# EAGLE library part MCP6L02 (library heph_custom_comp)
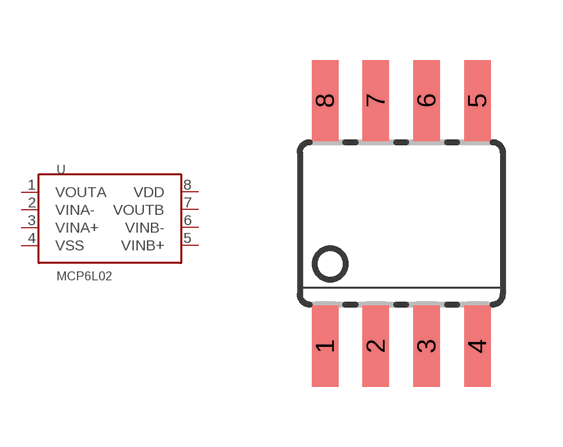
[diagram p3: symbol with the pads of SOIC-08; footprint SOIC-08]

Designator prefix -

## MCP6L02  [SOIC-08]
1  VOUTA
2  VINA-
3  VINA+
4  VSS
5  VINB+
6  VINB-
7  VOUTB
8  VDD

## Footprint SOIC-08 (pad centres in mm)
smd 0.66 x 2.032: 1 -1.905,-3.073; 2 -0.635,-3.073; 3 0.635,-3.073; 4 1.905,-3.073; 5 1.905,3.073; 6 0.635,3.073; 7 -0.635,3.073; 8 -1.905,3.073